# Altium footprint library UJ20CHGMSMT4BP16TR.PcbLib: 1 footprints
Each footprint in its own frame and in the unit in brackets; x right, y up, seen from the top. Pads: shape width x height; smd on the part's side, far side on the other; paste and mask are expansions set on the pad; w line width, h text height; cw(c..) or ccw(c..) is an arc to the next point about the centre after c.
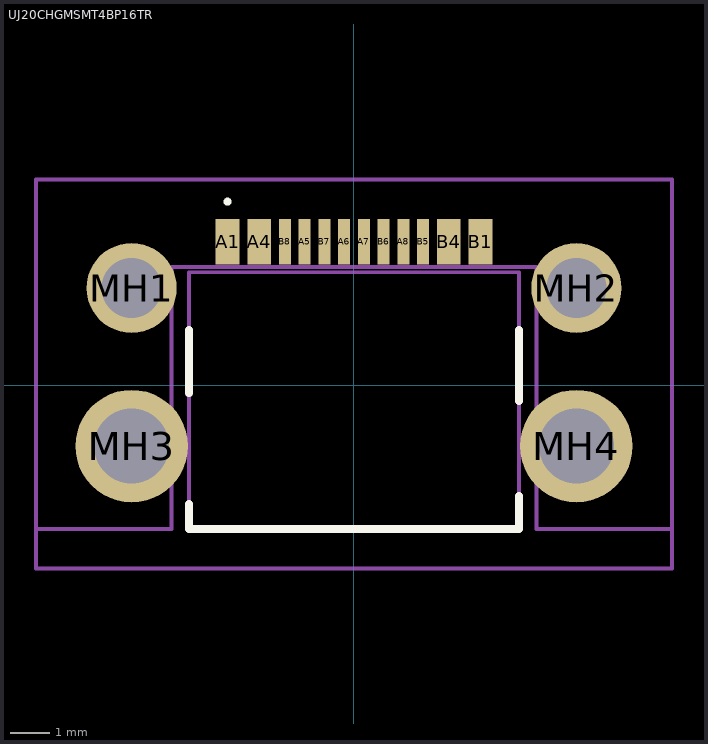
[diagram p0: the footprint, top view; thin cyan lines are the x and y axes]

## UJ20CHGMSMT4BP16TR [mm]
pads (16):
  rect 0.6x1.15 smd: A1(-3.2,3.638) A4(-2.4,3.638) B1(3.2,3.638) B4(2.4,3.638)
  rect 0.3x1.15 smd: A5(-1.25,3.638) A6(-0.25,3.638) A7(0.25,3.638) A8(1.25,3.638) B5(1.75,3.638) B6(0.75,3.638) B7(-0.75,3.638) B8(-1.75,3.638)
  round 2.28 hole 1.52: MH1(-5.625,2.463) MH2(5.625,2.463)
  round 2.85 hole 1.9: MH3(-5.625,-1.537) MH4(5.625,-1.537)
Top Overlay:
  lines w0.1: -3.2,4.6 -3.2,4.6 ; -3.2,4.6 ccw(c-3.2,4.65) -3.2,4.7 ; -3.2,4.6 cw(c-3.2,4.65) -3.2,4.7 ; -3.2,4.7 -3.2,4.7
  lines w0.2: -4.17,-3 -4.17,-3.638 4.17,-3.638 4.17,-2.8 ; -4.17,-0.2 -4.17,1.4 ; 4.17,-0.4 4.17,1.4
Mechanical 15:
  lines w0.1: -4.17,-3.638 4.17,-3.638 4.17,2.862 -4.17,2.862 -4.17,-3.638
Mechanical 20:
  lines w0.1: -8.05,-4.638 8.05,-4.638 8.05,5.213 -8.05,5.213 -8.05,-4.638
Mechanical 21:
  lines w0.1: -8.05,-3.638 -8.05,5.213 8.05,5.213 8.05,-3.638 4.62,-3.638 4.62,3 0,3 -4.62,3 -4.62,-3.638 -8.05,-3.638